# Altium footprint library 1818025.PcbLib: 1 footprints
Each footprint in its own frame and in the unit in brackets; x right, y up, seen from the top. Pads: shape width x height; smd on the part's side, far side on the other; paste and mask are expansions set on the pad; w line width, h text height; cw(c..) or ccw(c..) is an arc to the next point about the centre after c.
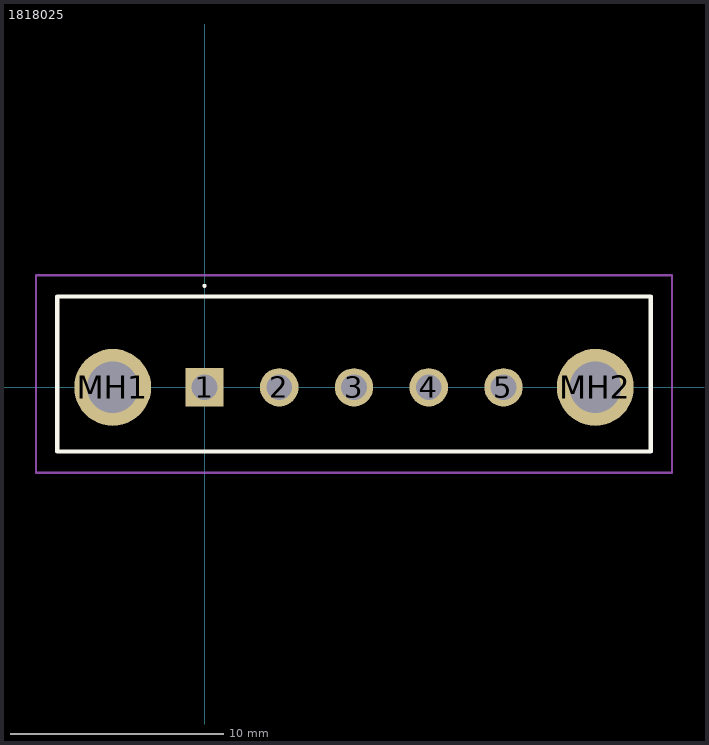
[diagram p0: the footprint, top view; thin cyan lines are the x and y axes]

## 1818025 [mm]
pads (7):
  rect 1.8x1.8 hole 1.2: 1(0,0)
  round 1.8 hole 1.2: 2(3.5,0) 3(7,0) 4(10.5,0) 5(14,0)
  round 3.6 hole 2.4: MH1(-4.3,0) MH2(18.3,0)
Top Overlay:
  lines w0.1: 0,4.7 cw(c0,4.75) 0,4.8 cw(c0,4.75) 0,4.7
  lines w0.2: -6.9,-3 20.9,-3 20.9,4.25 -6.9,4.25 -6.9,-3
Mechanical 15:
  lines w0.1: -6.9,-3 20.9,-3 20.9,4.25 -6.9,4.25 -6.9,-3
Mechanical 20:
  lines w0.1: -7.9,-4 21.9,-4 21.9,5.25 -7.9,5.25 -7.9,-4
3D body "1818025.STEP": height 9.2, standoff -3.4, extent -6.9,-3.1 20.9,4.15